# Altium footprint library PowerTransducer.PcbLib: 37 footprints (part 1 of 3)
Each footprint in its own frame and in the unit in brackets; x right, y up, seen from the top. Pads: shape width x height; smd on the part's side, far side on the other; paste and mask are expansions set on the pad; w line width, h text height; cw(c..) or ccw(c..) is an arc to the next point about the centre after c.
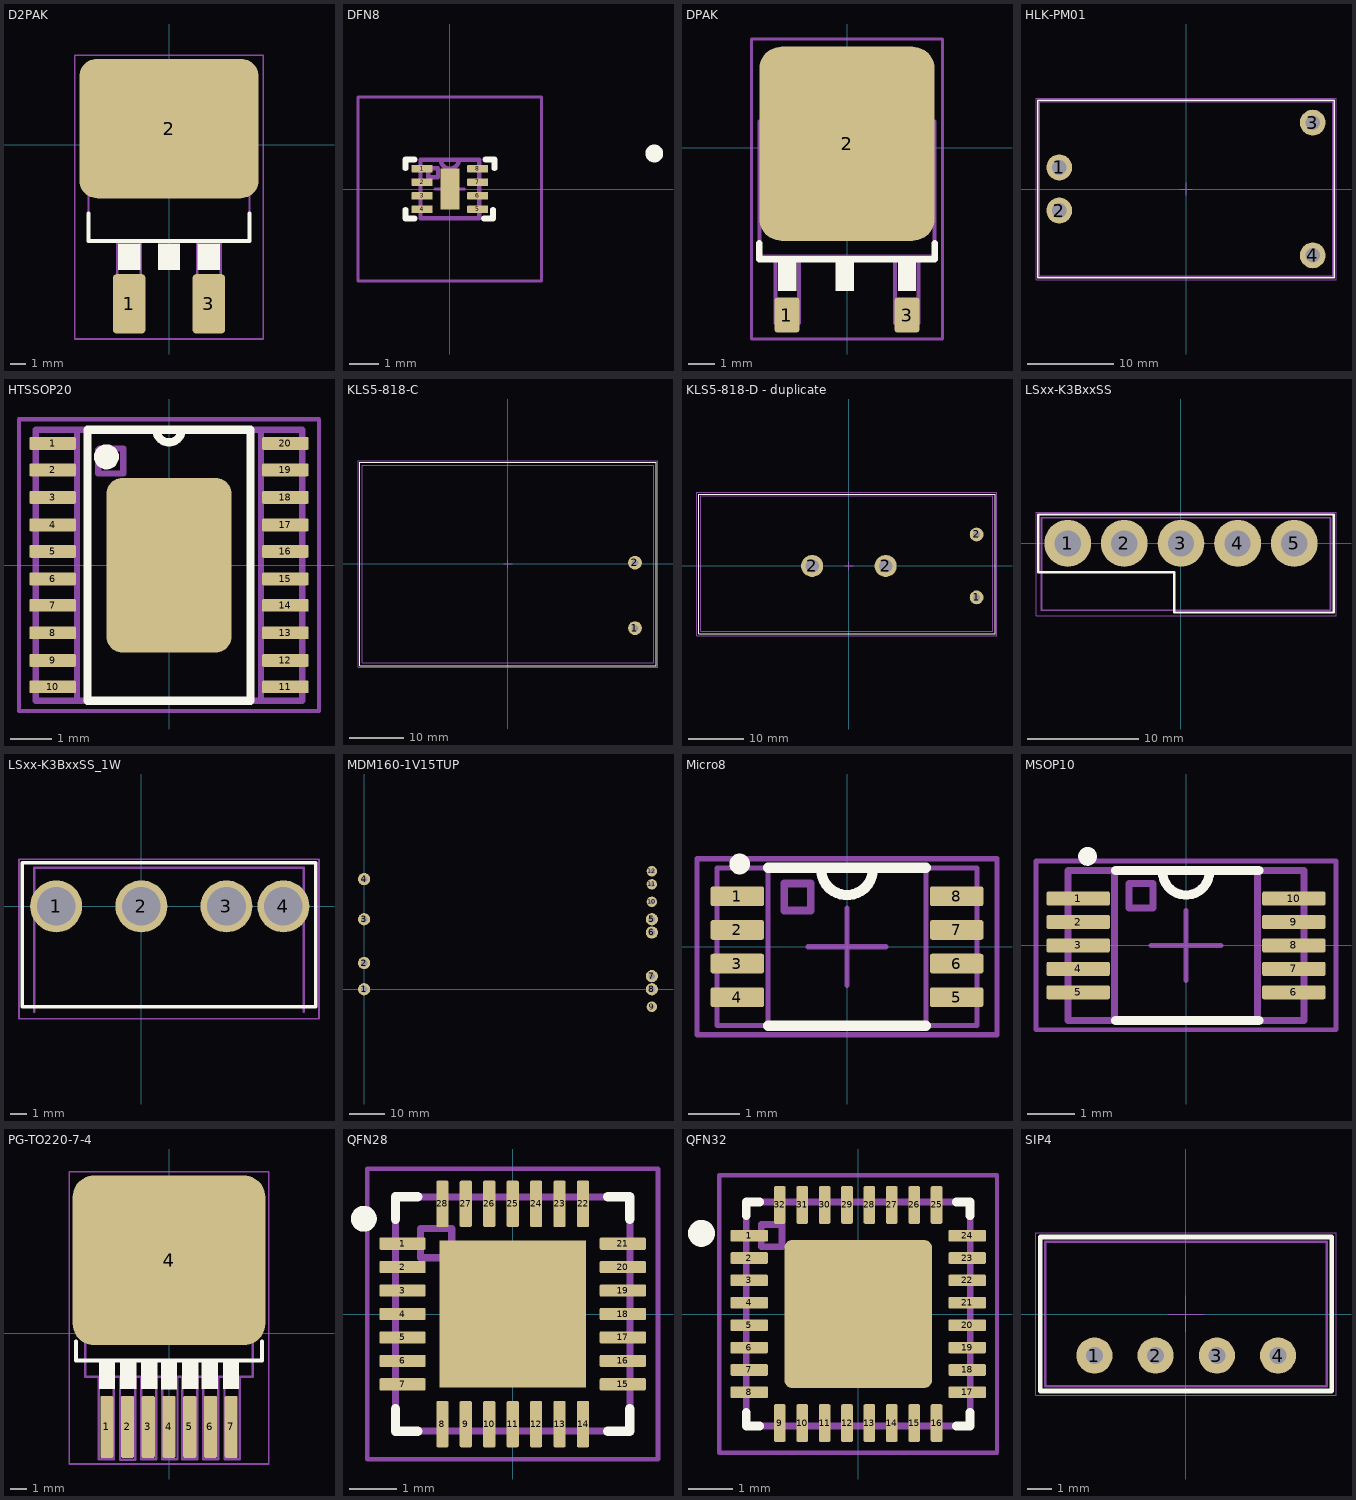
[diagram p0: the footprints below, top view; thin cyan lines are the x and y axes]

## D2PAK [mm]
pads (3):
  rrect25% 2.08x3.81 smd: 1(-2.54,-10.16) 3(2.54,-10.16)
  rrect25% 11.43x8.89 smd: 2(0,1.02)
Top Overlay:
  rectangle: -3.251,-8 -1.829,-6.312
  rectangle: 1.829,-8 3.251,-6.312
  rectangle: -0.711,-8 0.711,-6.312
  lines w0.254: -5.131,-4.381 -5.131,-6.159 5.131,-6.159 5.131,-4.381
Mechanical 9:
  text ".Designator" at -5,6.5 h3.5
Mechanical 10:
  text ".Comment" at -3.099,-14.1 h2
Mechanical 11:
  lines w0.15: -5.131,-6.159 -5.131,3.175 ; -5.1,-6.159 5.1,-6.159 ; -3.3,-6.159 -3.3,-11.2 -1.8,-11.2 -1.8,-6.159 ; 1.8,-6.159 1.8,-11.2 3.3,-11.2 3.3,-6.159 ; 5.131,-6.159 5.131,3.175 ; -5.131,3.175 5.131,3.175 ; -5.131,3.175 -5.131,3.429 -3.378,4.547 3.124,4.547 5.131,3.175
Mechanical 15:
  lines w0.1: -0.75,0 0.75,0 ; 0,-0.75 0,0.75 ; -6,-12.4 6,-12.4 6,5.7 -6,5.7 -6,-12.4
3D body "User Library-DPAK.step": height 5.03, standoff 0.02, extent -5.16,-11.25 5,4.014

## DFN8 [mil] "QFN, 28-Leads, Body 5,0x5,0mm (max), Pitch 0,50mm, IPC Medium Density"
height 39.37
pads (9):
  rrect25% 27.95x10.24 smd: 1(-37,27) 2(-37,9) 3(-37,-9) 4(-37,-27) 5(37,-27) 6(37,-9) 7(37,9) 8(37,27)
  rect 25x54 smd: ""(0,0)
Top Overlay:
  circle w15.75: c271.65,47.24 r3.94
  lines w7.87: -59.06,-27.56 -59.06,-39.37 -47.24,-39.37 ; -59.06,27.56 -59.06,39.37 -47.24,39.37 ; 45.28,-39.37 57.09,-39.37 57.09,-27.56 ; 47.24,39.37 59.06,39.37 59.06,27.56
Mechanical 4:
  circle w7.87: c272.64,45.28 r3.94
  circle w7.87: c272.64,45.28 r3.94
Mechanical 9:
  text ".Designator" at -216.54,161.42 h137.8
Mechanical 10:
  text ".Comment" at -114.17,-181.1 h78.74
Mechanical 11:
  lines w5.91: -39,-39 -39,39 ; -39,-39 39,-39 ; -39,-39 -39,39 ; -39,-39 39,-39 ; -39,39 -12,39 ; -39,39 -12,39 ; -12,39 ccw(c0,39) 12,39 ; -12,39 ccw(c0,39) 12,39 ; -12,39 12,39 ; -12,39 12,39 ; 12,39 39,39 ; 12,39 39,39 ; 39,-39 39,39 ; 39,-39 39,39 ; -28.79,15.75 -28.79,27.56 -15.75,27.56 -15.75,15.75 -28.79,15.75
Mechanical 15:
  lines w3.94: -19.68,0 19.68,0 ; 0,-19.68 0,19.68 ; -122.05,-122.05 122.05,-122.05 122.05,122.05 -122.05,122.05 -122.05,-122.05
3D body "User Library-DFN 8.step": height 30.35, standoff -1.18, extent -39.4,-39.37 39.41,39.37

## DPAK [mil]
pads (3):
  rrect25% 37x52 smd: 1(-89,-248) 3(89,-248)
  rrect25% 260x288 smd: 2(0,6)
Top Overlay:
  rectangle: -102.36,-212.6 -74.8,-165.35
  rectangle: 75.64,-212.6 102.36,-165.35
  rectangle: -17.3,-212.6 10.26,-165.35
  lines w10: -130,-141.94 -130,-165.35 130,-165.35 130,-141.94
Mechanical 9:
  text ".Designator" at -173.23,196.85 h137.8
Mechanical 10:
  text ".Comment" at -125.98,-346.46 h78.74
Mechanical 11:
  lines w5.91: -106.3,39.37 -106.3,59.06 -74.8,90.55 74.8,90.55 106.3,59.06 106.3,39.37 -129.92,39.37 ; -129.92,39.37 -129.92,39.37 ; 129.92,39.37 129.92,39.37
  lines w6: -130,-138 -130,39.37 ; 130,-138 130,39.37 ; -130,39.37 130,39.37 ; -130,39.37 -130,-161.42 130,-161.42 130,39.37 ; -106,-260 -106,-161.42 ; -106,-260 -71,-260 ; -106,-260 -106,-161.42 ; -106,-260 -71,-260 ; -106,-161.42 -71,-161.42 ; -71,-260 -71,-161.42 ; -71,-260 -71,-161.42 ; 71,-260 70.87,-165.35 71,-260 ; 71,-260 106,-260 ; 71,-260 106,-260 ; 106,-260 106.27,-161.42 106,-260
Mechanical 15:
  lines w3.94: -29.53,0 29.53,0 ; 0,-29.53 0,29.53 ; -141.73,-283.46 141.73,-283.46 141.73,161.42 -141.73,161.42 -141.73,-283.46
3D body: height 10, standoff 0, extent -192.91,11.81 -192.91,11.81
3D body "User Library-D-PAK.step": height 90.55, standoff 0, extent -127.81,-265.74 127.83,108.27

## HLK-PM01 [mm]
height 1.12
pads (4):
  round 3 hole 1.7: 1(-14.7,2.5) 2(-14.7,-2.5) 3(14.7,7.7) 4(14.7,-7.7)
Top Overlay:
  lines w0.2: -17.2,-10.3 -17.2,10.3 17.2,10.3 17.2,-10.3 -17.2,-10.3
Mechanical 9:
  text ".Designator" at -5.8,11.6 h3.5
Mechanical 10:
  text ".Comment" at -2.5,-12.1 h2
Mechanical 11:
  lines w0.15: -17,-10.1 17,-10.1 17,10.1 -17,10.1 -17,-10.1
Mechanical 15:
  lines w0.1: -0.75,0 0.75,0 ; 0,-0.75 0,0.75 ; -17.4,-10.5 -17.4,10.5 17.4,10.5 17.4,-10.5 -17.4,-10.5
3D body "User Library-HLK-PM01.step": height 15.1, standoff -5, extent -17,-10.1 17,10.1

## HTSSOP20 [mil]
height 43.31
pads (21):
  rrect25% 44x12 smd: 1(-110,115) 2(-110,90) 3(-110,64) 4(-110,38) 5(-110,13) 6(-110,-13) 7(-110,-38) 8(-110,-64) 9(-110,-90) 10(-110,-115) 11(110,-115) 12(110,-90) 13(110,-64) 14(110,-38) 15(110,-13) 16(110,13) 17(110,38) 18(110,64) 19(110,90) 20(110,115)
  rrect25% 118x165 smd: ""(0,0)
Top Overlay:
  circle w11.81: c-59.06,102.36 r5.91
  lines w7.87: -12,128 ccw(c0,128) 12,128 ; -12,128 -77,128 -77,-128 77,-128 77,128 12,128 ; -12,128 12,128
Mechanical 7:
  lines w5.91: -66.93,109 -66.93,86.61 -43.31,86.61 -43.31,110.24 -65.69,110.24 ; 87,-121 87,-109 87,-128 ; -87,-128 -126,-128 -126,128 -87,128 ; -87,-128 -87,128 ; -87,-128 87,-128 ; -87,-128 -87,128 ; -87,-128 87,-128 ; -87,128 -12,128 ; -87,128 -12,128 ; -12,128 ccw(c0,128) 12,128 ; -12,128 ccw(c0,128) 12,128 ; -12,128 12,128 ; -12,128 12,128 ; 12,128 87,128 ; 12,128 87,128 ; 87,-128 126,-128 126,128 87,128 ; 87,-128 87,128 ; 87,-128 87,128 ; -87,-121 -87,-109 -87,-121 ; -87,109 -87,121 -87,109 ; 87,109 87,121 87,109
Mechanical 9:
  text ".Designator" at -196.85,169.29 h137.8
Mechanical 10:
  text ".Comment" at -114.17,-196.85 h78.74
Mechanical 15:
  lines w3.94: -29.53,0 29.53,0 ; 0,-29.53 0,29.53 ; -141.73,-137.8 141.73,-137.8 141.73,137.8 -141.73,137.8 -141.73,-137.8
3D body "29184.stp": height 35.24, standoff -1.38, extent -125.98,-127.95 125.99,127.95

## KLS5-818-C [mm]
pads (2):
  round 2.5 hole 1.2: 1(23.11,-11.67) 2(23.11,0.23)
Top Overlay:
  lines w0.2: -27,-18.5 -27,18.5 27,18.5 27,-18.5 -27,-18.5
Mechanical 9:
  text ".Designator" at -5.9,21.4 h3.5
Mechanical 10:
  text ".Comment" at -2.5,19.3 h2
Mechanical 11:
  lines w0.1: -26.5,-18 26.5,-18 26.5,18 -26.5,18 -26.5,-18
Mechanical 15:
  lines w0.1: -0.75,0 0.75,0 ; 0,-0.75 0,0.75 ; -27.3,-18.8 -27.3,18.8 27.3,18.8 27.3,-18.8 -27.3,-18.8
3D body "User Library-3x AAA battery holder_update.STEP": height 13, standoff 0, extent -26.491,-18 26.491,18

## KLS5-818-D - duplicate [mm]
pads (4):
  round 2.5 hole 1.25: 1(23.11,-5.69) 2(23.11,5.69)
  round 4 hole 2.4: 2(-6.65,0) 2(6.65,0)
Top Overlay:
  lines w0.2: -27.2,-12.3 -27.2,13 26.5,13 26.5,-12.3 -27.2,-12.3
Mechanical 9:
  text ".Designator" at -6.3,16.2 h3.5
Mechanical 10:
  text ".Comment" at -2.9,14.1 h2
Mechanical 11:
  lines w0.15: -26.8,-11.8 26,-11.8 26,12.7 -26.8,12.7 -26.8,-11.8
Mechanical 15:
  lines w0.1: -0.75,0 0.75,0 ; 0,-0.75 0,0.75 ; -27.5,-12.6 -27.5,13.3 26.8,13.3 26.8,-12.6 -27.5,-12.6
3D body "User Library-koszyk 2xAAA_214.STEP": height 13.03, standoff 0.03, extent -26.795,-11.811 26.008,12.689

## LSxx-K3BxxSS [mm]
pads (5):
  round 4.2 hole 2.35: 1(-10.16,0) 2(-5.08,0) 3(0,0) 4(5.08,0) 5(10.16,0)
Top Overlay:
  lines w0.2: -12.8,-2.6 -12.8,2.6 13.7,2.6 13.7,-2.6 13.7,-6.2 -0.6,-6.2 -0.6,-2.6 -12.8,-2.6
Mechanical 9:
  text ".Designator" at -5.8,5.2 h3.5
Mechanical 10:
  text ".Comment" at -2.4,3.1 h2
Mechanical 11:
  lines w0.15: -12.5,-6 13.4,-6 13.4,2.3 -12.5,2.3 -12.5,-6
Mechanical 15:
  lines w0.1: -0.75,0 0.75,0 ; 0,-0.75 0,0.75 ; -13,-6.5 -13,2.8 13.9,2.8 13.9,-6.5 -13,-6.5
3D body "LSxx-K3BxxSS.stp": height 14.4, standoff -3.04, extent -11.756,-6 13.456,2.276

## LSxx-K3BxxSS_1W [mm]
pads (4):
  round 3.1 hole 2.3: 1(-5.08,0) 2(0,0) 3(5.08,0) 4(8.48,0)
Top Overlay:
  lines w0.2: -7.1,-6 10.4,-6 10.4,0.3 10.4,2.6 -7.1,2.6 -7.1,-2.6 -7.1,-6
Mechanical 9:
  text ".Designator" at -5.8,5.2 h3.5
Mechanical 10:
  text ".Comment" at -2.4,3.1 h2
Mechanical 11:
  lines w0.15: -6.4,-6.3 -6.4,2.3 9.7,2.3 9.7,-6.3 ; -6.4,-6 9.7,-6
Mechanical 15:
  lines w0.1: -0.75,0 0.75,0 ; 0,-0.75 0,0.75 ; -7.3,-6.7 10.6,-6.7 10.6,2.8 -7.3,2.8 -7.3,-6.7
3D body "LSxx-K3BxxSS.stp": height 15.39, standoff -2.78, extent -6.379,-6.3 9.762,2.275

## MDM160-1V15TUP [mm] "sda"
pads (12):
  round 3.5 hole 1.9: 1(0,0) 2(0,7.5) 3(0,20) 4(0,31.5) 5(82.25,20) 6(82.25,16.25) 7(82.25,3.75) 8(82.25,0)
  round 3 hole 1.4: 9(82.25,-5) 10(82.25,25) 11(82.25,30) 12(82.25,33.75)

## Micro8 [mm]
height 1.11
pads (8):
  rrect25% 1.04x0.38 smd: 1(-2.12,0.975) 2(-2.12,0.325) 3(-2.12,-0.325) 4(-2.12,-0.975) 5(2.12,-0.975) 6(2.12,-0.325) 7(2.12,0.325) 8(2.12,0.975)
Top Overlay:
  circle w0.2: c-2.075,1.6 r0.1
  lines w0.2: -1.525,-1.525 1.525,-1.525 ; -1.525,1.525 1.525,1.525 ; -0.5,1.5 ccw(c0,1.5) 0.5,1.5
Mechanical 9:
  text ".Designator" at -4.5,2.7 h3.5
Mechanical 10:
  text ".Comment" at -2.7,-3.2 h2
Mechanical 11:
  lines w0.1: -1.525,-1.525 -1.525,1.525 ; 1.525,-1.525 1.525,1.525 ; -2.515,-1.525 2.515,-1.525 2.515,1.525 -2.515,1.525 -2.515,-1.525
  lines w0.15: -1.213,0.7 -0.7,0.7 -0.7,1.225 -1.213,1.225 -1.213,0.7
Mechanical 15:
  lines w0.1: -0.75,0 0.75,0 ; 0,-0.75 0,0.75 ; -2.9,-1.7 2.9,-1.7 2.9,1.7 -2.9,1.7 -2.9,-1.7
3D body "User Library-msop-8.step": height 1.15, standoff 0, extent -2.45,-1.5 2.45,1.5

## MSOP10 [mm]
height 0.9
pads (10):
  rrect25% 1.35x0.3 smd: 1(-2.3,1) 2(-2.3,0.5) 3(-2.3,0) 4(-2.3,-0.5) 5(-2.3,-1) 6(2.3,-1) 7(2.3,-0.5) 8(2.3,0) 9(2.3,0.5) 10(2.3,1)
Top Overlay:
  circle w0.2: c-2.1,1.9 r0.1
  lines w0.2: -1.5,-1.6 1.55,-1.6 ; -1.5,1.6 1.55,1.6 ; -0.5,1.575 ccw(c0,1.575) 0.5,1.575
Mechanical 9:
  text ".Designator" at -5.4,2.7 h3.5
Mechanical 10:
  text ".Comment" at -2.95,-3.4 h2
Mechanical 11:
  lines w0.15: -1.525,-1.6 -1.525,1.6 ; 1.525,-1.6 1.525,1.6 ; -2.515,-1.6 2.515,-1.6 2.515,1.6 -2.515,1.6 -2.515,-1.6 ; -1.213,0.8 -0.7,0.8 -0.7,1.325 -1.213,1.325 -1.213,0.8
Mechanical 15:
  lines w0.1: -0.75,0 0.75,0 ; 0,-0.75 0,0.75 ; -3.2,-1.8 3.2,-1.8 3.2,1.8 -3.2,1.8 -3.2,-1.8
3D body "User Library-MSOP10-1.step": height 1.09, standoff 0, extent -2.575,-1.6 2.575,1.6

## PG-TO220-7-4 [mm]
pads (8):
  rrect25% 0.8x3.8 smd: 1(-3.81,-5.725) 2(-2.54,-5.725) 3(-1.27,-5.725) 4(0,-5.725) 5(1.27,-5.725) 6(2.54,-5.725) 7(3.81,-5.725)
  rrect25% 11.8x10.4 smd: 4(0,4.475)
Top Overlay:
  rectangle: -4.3,-3.4 -3.3,-1.712
  rectangle: -3,-3.4 -2,-1.712
  rectangle: -1.7,-3.4 -0.7,-1.712
  rectangle: -0.5,-3.441 0.5,-1.752
  rectangle: 0.8,-3.4 1.8,-1.712
  rectangle: 2,-3.4 3,-1.712
  rectangle: 3.3,-3.4 4.3,-1.712
  lines w0.254: -5.7,-0.5 -5.7,-1.659 5.7,-1.659 5.7,-0.5
Mechanical 9:
  text ".Designator" at -5,6.5 h3.5
Mechanical 10:
  text ".Comment" at -3.099,-14.1 h2
Mechanical 11:
  lines w0.15: -5.131,-2.659 -5.131,6.675 ; -5.1,-2.659 5.1,-2.659 ; -4.3,-2.659 -4.3,-7.7 -3.378,-7.7 -3.378,-2.659 ; -3,-2.7 -3,-7.741 -2.078,-7.741 -2.078,-2.7 ; -1.7,-2.659 -1.7,-7.7 -0.778,-7.7 -0.778,-2.659 ; -0.4,-2.659 -0.4,-7.7 0.522,-7.7 0.522,-2.659 ; 0.8,-2.659 0.8,-7.7 1.722,-7.7 1.722,-2.659 ; 2.1,-2.659 2.1,-7.7 3.022,-7.7 3.022,-2.659 ; 3.4,-2.659 3.4,-7.7 4.322,-7.7 4.322,-2.659 ; 5.131,-2.659 5.131,6.675 ; -5.131,6.675 -5.131,6.929 -3.378,8.047 3.124,8.047 5.131,6.675 ; -5.131,6.675 5.131,6.675
Mechanical 15:
  lines w0.1: -0.85,4.4 0.65,4.4 ; -0.1,3.65 -0.1,5.15 ; -6.1,-8 -6.1,9.9 6.1,9.9 6.1,-8 -6.1,-8
3D body "User Library-D2PAK-7.step": height 4.5, standoff 0, extent -5.18,-6.909 5.22,8.765

## QFN28 [mm] "QFN, 28-Leads, Body 5,0x5,0mm (max), Pitch 0,50mm, IPC Medium Density"
height 1
pads (29):
  rrect25% 0.99x0.26 smd: 1(-2.35,1.5) 2(-2.35,1) 3(-2.35,0.5) 4(-2.35,0) 5(-2.35,-0.5) 6(-2.35,-1) 7(-2.35,-1.5) 15(2.35,-1.5) 16(2.35,-1) 17(2.35,-0.5) 18(2.35,0) 19(2.35,0.5) 20(2.35,1) 21(2.35,1.5)
  rrect25% 0.26x0.99 smd: 8(-1.5,-2.35) 9(-1,-2.35) 10(-0.5,-2.35) 11(0,-2.35) 12(0.5,-2.35) 13(1,-2.35) 14(1.5,-2.35) 22(1.5,2.35) 23(1,2.35) 24(0.5,2.35) 25(0,2.35) 26(-0.5,2.35) 27(-1,2.35) 28(-1.5,2.35)
  rect 3.13x3.13 smd: ""(0,0)
Top Overlay:
  circle w0.3: c-3.175,2.032 r0.125
  lines w0.2: -2.5,-2.025 -2.5,-2.5 -2.025,-2.5 ; -2.5,2.025 -2.5,2.5 -2.025,2.5 ; 2.025,-2.5 2.5,-2.5 2.5,-2.025 ; 2.025,2.5 2.5,2.5 2.5,2.025
Mechanical 9:
  text ".Designator" at -4.9,3.9 h3.5
Mechanical 10:
  text ".Comment" at -3.1,-4.5 h2
Mechanical 11:
  lines w0.15: -2.5,-2.5 2.5,-2.5 2.5,2.5 -2.5,2.5 -2.5,-2.5 ; -1.963,1.2 -1.3,1.2 -1.3,1.825 -1.963,1.825 -1.963,1.2
Mechanical 15:
  lines w0.1: -0.5,0 0.5,0 ; 0,-0.5 0,0.5 ; -3.1,-3.1 3.1,-3.1 3.1,3.1 -3.1,3.1 -3.1,-3.1
3D body "User Library-QFN28.step": height 0.9, standoff 0, extent -2.52,-2.52 2.52,2.52

## QFN32 [mm] "QFN, 28-Leads, Body 5,0x5,0mm (max), Pitch 0,50mm, IPC Medium Density"
height 1
pads (33):
  rrect25% 0.84x0.26 smd: 1(-2.435,1.75) 2(-2.435,1.25) 3(-2.435,0.75) 4(-2.435,0.25) 5(-2.435,-0.25) 6(-2.435,-0.75) 7(-2.435,-1.25) 8(-2.435,-1.75) 17(2.435,-1.75) 18(2.435,-1.25) 19(2.435,-0.75) 20(2.435,-0.25) 21(2.435,0.25) 22(2.435,0.75) 23(2.435,1.25) 24(2.435,1.75)
  rrect25% 0.26x0.84 smd: 9(-1.75,-2.435) 10(-1.25,-2.435) 11(-0.75,-2.435) 12(-0.25,-2.435) 13(0.25,-2.435) 14(0.75,-2.435) 15(1.25,-2.435) 16(1.75,-2.435) 25(1.75,2.435) 26(1.25,2.435) 27(0.75,2.435) 28(0.25,2.435) 29(-0.25,2.435) 30(-0.75,2.435) 31(-1.25,2.435) 32(-1.75,2.435)
  rrect10% 3.3x3.3 smd: ""(0,0)
Top Overlay:
  circle w0.4: c-3.5,1.8 r0.1
  lines w0.2: -2.5,-2.2 -2.5,-2.5 -2.2,-2.5 ; -2.5,2.2 -2.5,2.5 -2.2,2.5 ; 2.2,-2.5 2.5,-2.5 2.5,-2.2 ; 2.2,2.5 2.5,2.5 2.5,2.2
Top Paste:
  region: -1.044,1.044 1.044,1.044 1.044,-1.044 -1.044,-1.044
Mechanical 4:
  circle w0.2: c-3.475,1.75 r0.1
  circle w0.2: c-3.475,1.75 r0.1
  lines w0.127: -2.5,-2.5 2.5,-2.5 ; -2.5,-2.5 -2.5,2.5 ; -2.5,-2.5 2.5,-2.5 ; -2.5,-2.5 -2.5,2.5 ; -2.5,2.5 2.5,2.5 ; -2.5,2.5 2.5,2.5 ; 2.5,-2.5 2.5,2.5 ; 2.5,-2.5 2.5,2.5
Mechanical 9:
  text ".Designator" at -5.5,4.1 h3.5
Mechanical 10:
  text ".Comment" at -2.9,-4.6 h2
Mechanical 11:
  lines w0.15: -2.5,-2.5 2.5,-2.5 2.5,2.5 -2.5,2.5 -2.5,-2.5 ; -2.163,1.5 -1.7,1.5 -1.7,2 -2.163,2 -2.163,1.5
Mechanical 15:
  lines w0.1: -0.5,0 0.5,0 ; 0,-0.5 0,0.5 ; -3.1,-3.1 3.1,-3.1 3.1,3.1 -3.1,3.1 -3.1,-3.1
3D body "User Library-QFN-32-5x5 - EQ.step": height 0.85, standoff 0, extent -2.5,-2.5 2.5,2.5

## SIP4 [mm] "11.6mm L x 6.0mm W"
height 10.2
pads (4):
  round 1.5 hole 0.7: 1(-3.8,-1.725) 2(-1.26,-1.725) 4(3.82,-1.725)
  round 1.5 hole 0.7 paste-2539.97: 3(1.28,-1.725)
Top Overlay:
  lines w0.2: -6.05,-3.2 -6.05,3.2 6.05,3.2 6.05,-3.2 -6.05,-3.2
Mechanical 13:
  lines w0.1: -5.842,-3 5.842,-3 5.842,3 -5.842,3 -5.842,-3
Mechanical 15:
  lines w0.05: -0.75,0 0.75,0 ; 0,-0.75 0,0.75 ; -6.225,-3.375 6.225,-3.375 6.225,3.375 -6.225,3.375 -6.225,-3.375
3D body "User Library-4-Lead SIP_AM1S-1205SZ_Aimtec_DC-DC_Converter_1_Watt.step": height 10.2, standoff -3, extent -5.842,-3 5.842,3